# Altium schematic symbol library IC.SchLib: 8 symbols
Pins are listed as number, name and electrical type; pins without a type are passive.

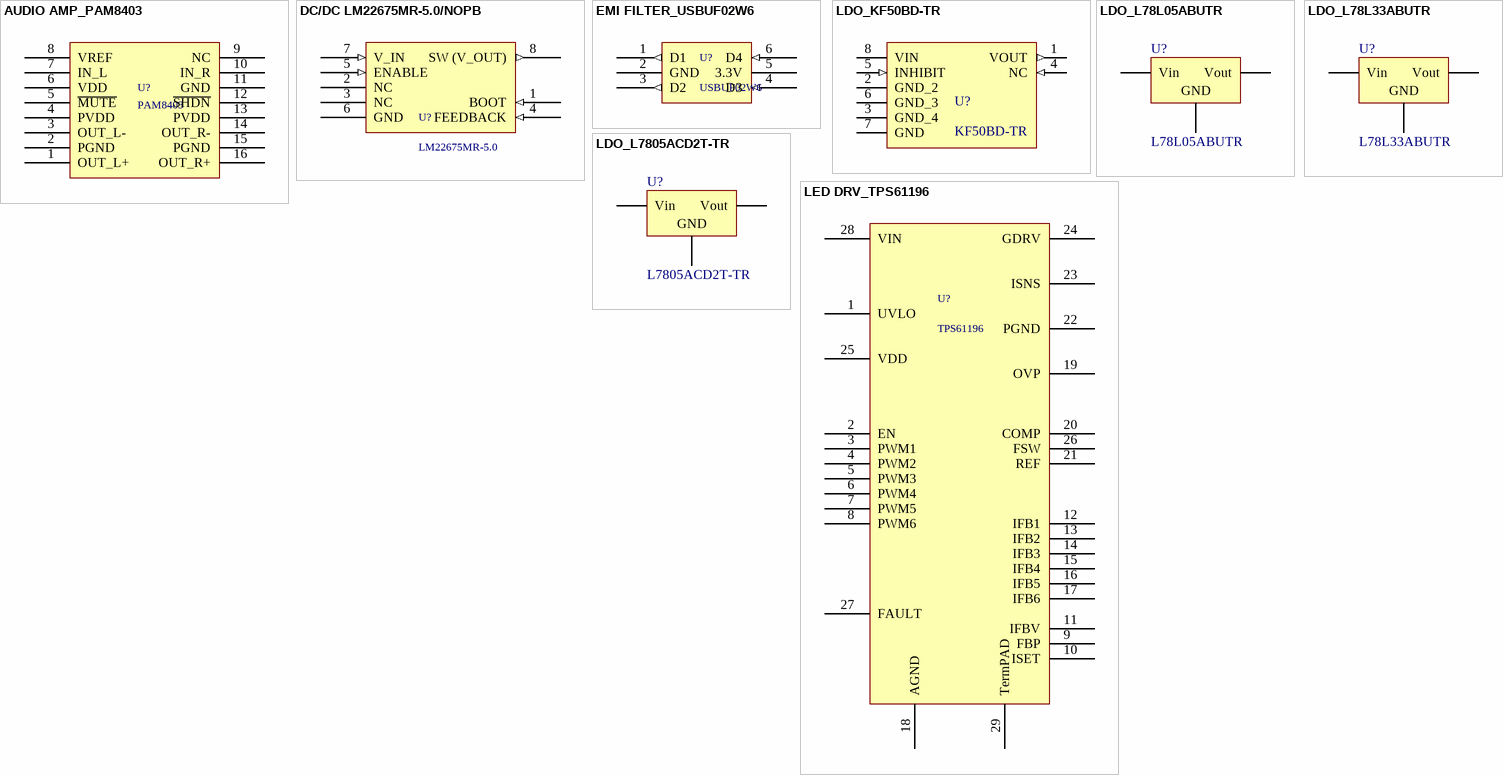
[diagram p0: symbols AUDIO AMP_PAM8403 to LED DRV_TPS61196]

## AUDIO AMP_PAM8403
designator U?, comment PAM8403
Стереоусилитель класса D до 1.8 Вт при 8 Ом, или до 3.2 Вт при 4 Ом
footprint SOP_16
pins: 1 OUT_L+, 2 PGND, 3 OUT_L-, 4 PVDD, 5 ~{MUTE}, 6 VDD, 7 IN_L, 8 VREF, 9 NC, 10 IN_R, 11 GND, 12 ~{SHDN}, 13 PVDD, 14 OUT_R-, 15 PGND, 16 OUT_R+

## DC/DC LM22675MR-5.0/NOPB
designator U?, comment LM22675MR-5.0
Преобразователь с фиксированным выходным напряжением 5В [SO PowerPAD-8]
footprint SO_8 POWER (SOIC, 8-Leads, Body 4,90x3,90mm, Pitch 1,27mm, Thermal Pad 3,50x2,60mm, IPC Medium Density)
pins: 1 BOOT (in), 2 NC, 3 NC, 4 FEEDBACK (in), 5 ENABLE (in), 6 GND, 7 V_IN (in), 8 SW (V_OUT) (out)

## EMI FILTER_USBUF02W6
designator U?, comment USBUF02W6
Защитная ИС EMI FILTER/LINE TERM; URL: https://www.chipdip.ru/product/usbuf02w6
footprint SOT_323-6l
pins: 1 D1 (out), 2 GND, 3 D2 (out), 4 D3 (in), 5 3.3V, 6 D4 (in)

## LDO_KF50BD-TR
designator U?, comment KF50BD-TR
Linear Voltage Regulator IC 1 Output 500mA 8-SO; MF: STMicroelectronics; Package: SOIC-8 STMicroelectronics; Value: *; MP: KF50BD-TR; Mouser-Purchase-URL: https://snapeda.com/shop?store=Mouser&id=226912; Availability: Unavailable; Arrow_Electronics-Purchase-URL: https://snapeda.com/shop?store=Arrow+Electronics&id=226912; SnapEDA_Link: https://www.snapeda.com/parts/KF50BD-TR/STMicroelectronics/view-part/226912/?ref=snap; Price: None
footprint SO_8 (SOIC, 8-Leads, Body 4,90x3,90mm, Pitch 1,27mm, IPC Medium Density)
pins: 1 VOUT (out), 2 GND_2, 3 GND_4, 4 NC (in), 5 INHIBIT (in), 6 GND_3, 7 GND, 8 VIN (power)

## LDO_L78L05ABUTR
designator U?, comment L78L05ABUTR
Cтабилизатор напряжения (+5В; 0.1А), 4%, (-40...+125C), [SOT-89] / 5-24V to 5V DC/DC; Published: 24-Mar-1999; LatestRevisionDate: 29-May-2009; LatestRevisionNote: IPC-7351 Footprint Added.; PackageReference: D2PAK; Publisher: Altium Limited; PackageDescription: 3-Pin Transistor Outline Package 2.54 mm Pitch, 15.1 mm Lead Span
footprint SOT_89 (SOT89, 3-Leads, Body 4.50x2.50mm, Pitch 1.50mm, Lead Span 3.3mm, IPC Medium Density)
pins: 1 Vout, 2 GND, 3 Vin

## LDO_L78L33ABUTR
designator U?, comment L78L33ABUTR
Cтабилизатор напряжения (+3.3В; 0.1А), [SOT-89] /; Published: 24-Mar-1999; LatestRevisionDate: 29-May-2009; LatestRevisionNote: IPC-7351 Footprint Added.; PackageReference: D2PAK; Publisher: Altium Limited; PackageDescription: 3-Pin Transistor Outline Package 2.54 mm Pitch, 15.1 mm Lead Span
footprint SOT_89 (SOT89, 3-Leads, Body 4.50x2.50mm, Pitch 1.50mm, Lead Span 3.3mm, IPC Medium Density)
pins: 1 Vout, 2 GND, 3 Vin

## LDO_L7805ACD2T-TR
designator U?, comment L7805ACD2T-TR
Стабилизатор напряжения +5В 1.5А, [D2-PAK] /; Published: 24-Mar-1999; LatestRevisionDate: 29-May-2009; LatestRevisionNote: IPC-7351 Footprint Added.; PackageReference: D2PAK; Publisher: Altium Limited; PackageDescription: 3-Pin Transistor Outline Package 2.54 mm Pitch, 15.1 mm Lead Span
footprint D2-PAK (D2-PAK, 3-Pads, Body 7,55x8,52mm (max), IPC Medium Density)
pins: 1 Vin, 2 GND, 3 Vout

## LED DRV_TPS61196
designator U?, comment TPS61196
footprint HTSSOP_28 (HTSSOP-28, 28-Leads, Body 9,70x4,40mm, Pitch 0,65mm, Thermal Pad 9,70x3,40mm, IPC Medium Density)
pins: 1 UVLO, 2 EN, 3 PWM1, 4 PWM2, 5 PWM3, 6 PWM4, 7 PWM5, 8 PWM6, 9 FBP, 10 ISET, 11 IFBV, 12 IFB1, 13 IFB2, 14 IFB3, 15 IFB4, 16 IFB5, 17 IFB6, 18 AGND, 19 OVP, 20 COMP, 21 REF, 22 PGND, 23 ISNS, 24 GDRV, 25 VDD, 26 FSW, 27 FAULT, 28 VIN, 29 TermPAD